# Altium footprint library sucaiku_pcblib.PcbLib: 27 footprints (part 2 of 2)
Each footprint in its own frame and in the unit in brackets; x right, y up, seen from the top. Pads: shape width x height; smd on the part's side, far side on the other; paste and mask are expansions set on the pad; w line width, h text height; cw(c..) or ccw(c..) is an arc to the next point about the centre after c.
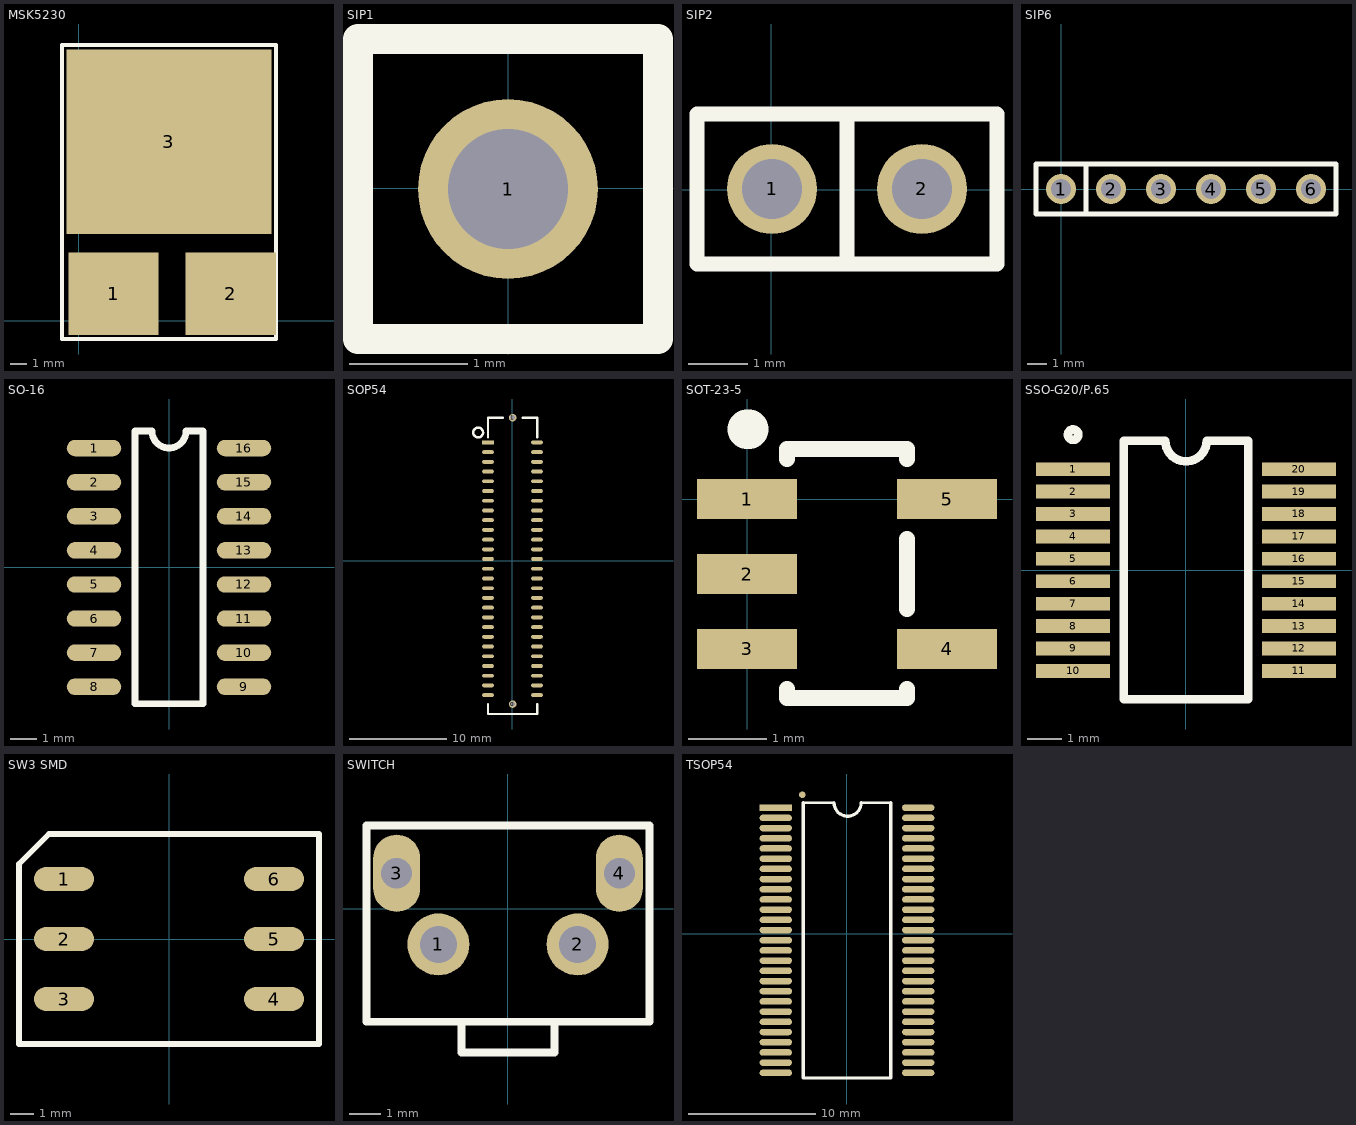
[diagram p1: the footprints below, top view; thin cyan lines are the x and y axes]

## MSK5230 [mil]
pads (3):
  rect 220x200 smd: 1(84.74,65.48) 2(369.74,65.48)
  rect 500x450 smd: 3(219.74,435.48)
TopOverlay:
  lines w10: -40.26,-44.52 479.74,-44.52 479.74,670.48 -40.26,670.48 -40.26,-44.52

## SIP1 [mil]
pads (1):
  round 60 hole 40: 1(-0.13,-0.28)
TopOverlay:
  lines w10: -50.13,-50.28 49.87,-50.28 49.87,49.72 -50.13,49.72 -50.13,-50.28

## SIP2 [mil]
pads (2):
  round 60 hole 40: 1(0.47,0.37) 2(100.47,0.37)
TopOverlay:
  lines w10: 50.47,-49.63 50.47,50.37 ; -49.53,-49.63 150.47,-49.63 150.47,50.37 -49.53,50.37 -49.53,-49.63

## SIP6 [mil]
pads (6):
  round 60 hole 40: 1(0,0) 2(100,0) 3(200,0) 4(300,0) 5(400,0) 6(500,0)
TopOverlay:
  lines w10: 50,-50 50,50 ; -50,-50 550,-50 550,50 -50,50 -50,-50

## SO-16 [mil]
pads (16):
  oval 80x24 smd: 1(-110,175) 2(-110,125) 3(-110,75) 4(-110,25) 5(-110,-25) 6(-110,-75) 7(-110,-125) 8(-110,-175) 9(110,-175) 10(110,-125) 11(110,-75) 12(110,-25) 13(110,25) 14(110,75) 15(110,125) 16(110,175)
TopOverlay:
  lines w10: -50,-200 -50,200 -25,200 ccw(c0,200) 25,200 50,200 50,-200 -50,-200

## SOP54 [mm]
pads (56):
  round 0.762 hole 0.508: 0(0.02,-14.732) 1(0.02,14.732)
  rect 1.2x0.4 smd: 1(-2.52,12.192)
  oval 1.2x0.4 smd: 2(-2.52,11.192) 3(-2.52,10.192) 4(-2.52,9.192) 5(-2.52,8.192) 6(-2.52,7.192) 7(-2.52,6.192) 8(-2.52,5.192) 9(-2.52,4.192) 10(-2.52,3.192) 11(-2.52,2.192) 12(-2.52,1.192) 13(-2.52,0.192) 14(-2.52,-0.808) 15(-2.52,-1.808) 16(-2.52,-2.808) 17(-2.52,-3.808) 18(-2.52,-4.808) 19(-2.52,-5.808) 20(-2.52,-6.808) 21(-2.52,-7.808) 22(-2.52,-8.808) 23(-2.52,-9.808) 24(-2.52,-10.808) 25(-2.52,-11.808) 26(-2.52,-12.808) 27(-2.52,-13.808) 28(2.52,-13.808) 29(2.52,-12.808) 30(2.52,-11.808) 31(2.52,-10.808) 32(2.52,-9.808) 33(2.52,-8.808) 34(2.52,-7.808) 35(2.52,-6.808) 36(2.52,-5.808) 37(2.52,-4.808) 38(2.52,-3.808) 39(2.52,-2.808) 40(2.52,-1.808) 41(2.52,-0.808) 42(2.52,0.192) 43(2.52,1.192) 44(2.52,2.192) 45(2.52,3.192) 46(2.52,4.192) 47(2.52,5.192) 48(2.52,6.192) 49(2.52,7.192) 50(2.52,8.192) 51(2.52,9.192) 52(2.52,10.192) 53(2.52,11.192) 54(2.52,12.192)
TopOverlay:
  circle w0.254: c-3.536,13.208 r0.508
  lines w0.254: -2.52,-14.732 -2.52,-15.748 1.036,-15.748 2.56,-15.748 2.56,-14.732 ; -2.52,12.7 -2.52,14.732 -0.996,14.732 ; 1.036,14.732 2.56,14.732 2.56,12.7

## SOT-23-5 [mil]
height 44.88
pads (5):
  rect 50x20 smd: 1(0,0) 2(0,-37.4) 3(0,-74.8) 4(100,-74.8) 5(100,0)
TopOverlay:
  lines w8: 20,-95 20,-99.32 80,-99.32 80,-95 ; 20,20 20,25 80,25 80,20 ; 80,-55 80,-20
  lines w19.68: 0,35 1,35

## SSO-G20/P.65 [mm]
pads (20):
  rect 2.15x0.4 smd: 1(-3.275,2.925) 2(-3.275,2.275) 3(-3.275,1.625) 4(-3.275,0.975) 5(-3.275,0.325) 6(-3.275,-0.325) 7(-3.275,-0.975) 8(-3.275,-1.625) 9(-3.275,-2.275) 10(-3.275,-2.925) 11(3.275,-2.925) 12(3.275,-2.275) 13(3.275,-1.625) 14(3.275,-0.975) 15(3.275,-0.325) 16(3.275,0.325) 17(3.275,0.975) 18(3.275,1.625) 19(3.275,2.275) 20(3.275,2.925)
TopOverlay:
  circle w0.25: c-3.275,3.925 r0.15
  lines w0.25: -1.8,-3.75 1.8,-3.75 1.8,3.75 0.6,3.75 cw(c0,3.75) -0.6,3.75 -1.8,3.75 -1.8,-3.75

## SW3 SMD [mil]
pads (6):
  oval 100x40 smd: 1(-175,100) 2(-175,0) 3(-175,-100) 4(175,-100) 5(175,0) 6(175,100)
TopOverlay:
  lines w10: -250,-175 -250,125 -200,175 -175,175 250,175 250,-175 -250,-175

## SWITCH [mm]
pads (4):
  round 2 hole 1.2: 1(-2.25,-1.15) 2(2.25,-1.15)
  oval 1.524x2.5 hole 1: 3(-3.6,1.15) 4(3.6,1.15)
TopOverlay:
  lines w0.254: -4.572,-3.65 -4.572,2.7 4.572,2.7 4.572,-3.65 -4.572,-3.65 ; -1.5,-4.65 -1.5,-3.65 1.5,-3.65 1.5,-4.65 -1.5,-4.65

## TSOP54 [mil]
pads (55):
  round 20 smd: 0(-138,429.5)
  rect 100x20 smd: 1(-220,389.5)
  oval 100x20 smd: 2(-220,358) 3(-220,326.5) 4(-220,295) 5(-220,263.5) 6(-220,232) 7(-220,200.5) 8(-220,169) 9(-220,137.5) 10(-220,106) 11(-220,74.5) 12(-220,43) 13(-220,11.5) 14(-220,-20) 15(-220,-51.5) 16(-220,-83) 17(-220,-114.5) 18(-220,-146) 19(-220,-177.5) 20(-220,-209) 21(-220,-240.5) 22(-220,-272) 23(-220,-303.5) 24(-220,-335) 25(-220,-366.5) 26(-220,-398) 27(-220,-429.5) 28(220,-429.5) 29(220,-398) 30(220,-366.5) 31(220,-335) 32(220,-303.5) 33(220,-272) 34(220,-240.5) 35(220,-209) 36(220,-177.5) 37(220,-146) 38(220,-114.5) 39(220,-83) 40(220,-51.5) 41(220,-20) 42(220,11.5) 43(220,43) 44(220,74.5) 45(220,106) 46(220,137.5) 47(220,169) 48(220,200.5) 49(220,232) 50(220,263.5) 51(220,295) 52(220,326.5) 53(220,358) 54(220,389.5)
TopOverlay:
  lines w8: -135,405.25 -40.02,405.25 ; 44,405.25 135,405.25
  lines w10: -135,405.25 -135,-445.25 135,-445.25 135,405.25 ; -40.02,405.25 ccw(c1.99,405.25) 44,405.25